# Altium footprint library wearable_pcb.PcbLib: 4 footprints
Each footprint in its own frame and in the unit in brackets; x right, y up, seen from the top. Pads: shape width x height; smd on the part's side, far side on the other; paste and mask are expansions set on the pad; w line width, h text height; cw(c..) or ccw(c..) is an arc to the next point about the centre after c.
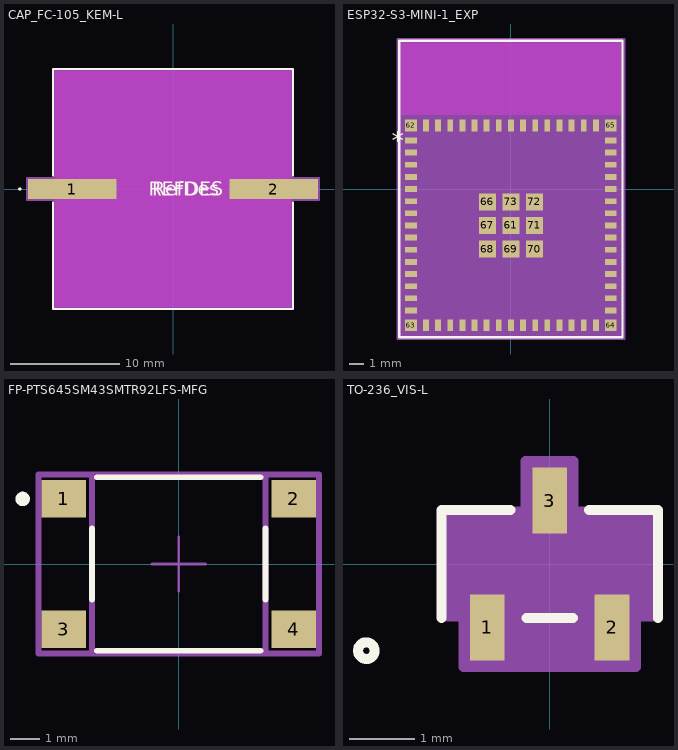
[diagram p0: the footprints below, top view; thin cyan lines are the x and y axes]

## CAP_FC-105_KEM-L [mil]
pads (2):
  rect 319x71 smd paste+0 mask+0: 1(-364.5,0) 2(364.5,0)
Top Layer keep-out:
  region: -203,-37.5 -203,37.5 203,37.5 203,-37.5
  region: -427,37.5 -427,427 427,427 427,37.5
  region: -427,-427 -427,-37.5 427,-37.5 427,-427
Top Overlay:
  circle w6: c-554,0 r3
  lines w6: -434,-48.6 -434,-434 434,-434 434,-48.6 ; -434,48.6 -434,434 434,434 434,48.6
  text "RefDes" at -75,-25 h50
  text "REFDES" at -87.5,-25 h50
Keep-Out Layer:
  region: -203,-37.5 -203,37.5 203,37.5 203,-37.5
Mechanical 13:
  circle w0: c-409,0 r3
  lines w1: -429,-214.5 -214.5,-429 ; -429,214.5 -214.5,429 ; -429,-429 429,-429 429,429 -429,429 -429,-429
  text "RefDes2" at -87.5,-25 h50
Mechanical 15:
  region: -433,-39.5 -528,-39.5 -528,39.5 -433,39.5 -433,433 433,433 433,39.5 528,39.5 528,-39.5 433,-39.5 433,-433 -433,-433
  lines w6: -528,-39.5 -528,39.5 -433,39.5 -433,433 433,433 433,39.5 528,39.5 528,-39.5 433,-39.5 433,-433 -433,-433 -433,-39.5 -528,-39.5
3D body "CAP_FC-105_KEM.step": height 415.12, standoff 0, extent -430.98,-429.02 430.98,429.02

## ESP32-S3-MINI-1_EXP [mil]
pads (73):
  rect 32x16 smd paste+0 mask+0: 1(-275.59,133.75) 2(-275.59,100.29) 3(-275.59,66.82) 4(-275.59,33.36) 5(-275.59,-0.11) 6(-275.59,-33.57) 7(-275.59,-67.04) 8(-275.59,-100.5) 9(-275.59,-133.96) 10(-275.59,-167.43) 11(-275.59,-200.89) 12(-275.59,-234.36) 13(-275.59,-267.82) 14(-275.59,-301.29) 15(-275.59,-334.75) 31(275.59,-334.75) 32(275.59,-301.29) 33(275.59,-267.82) 34(275.59,-234.36) 35(275.59,-200.89) 36(275.59,-167.43) 37(275.59,-133.96) 38(275.59,-100.5) 39(275.59,-67.04) 40(275.59,-33.57) 41(275.59,-0.11) 42(275.59,33.36) 43(275.59,66.82) 44(275.59,100.29) 45(275.59,133.75)
  rect 16x32 smd paste+0 mask+0: 16(-234.25,-376.09) 17(-200.79,-376.09) 18(-167.32,-376.09) 19(-133.86,-376.09) 20(-100.39,-376.09) 21(-66.93,-376.09) 22(-33.46,-376.09) 23(0,-376.09) 24(33.46,-376.09) 25(66.93,-376.09) 26(100.39,-376.09) 27(133.86,-376.09) 28(167.32,-376.09) 29(200.79,-376.09) 30(234.25,-376.09) 46(234.25,175.09) 47(200.79,175.09) 48(167.32,175.09) 49(133.86,175.09) 50(100.39,175.09) 51(66.93,175.09) 52(33.46,175.09) 53(0,175.09) 54(-33.46,175.09) 55(-66.93,175.09) 56(-100.39,175.09) 57(-133.86,175.09) 58(-167.32,175.09) 59(-200.79,175.09) 60(-234.25,175.09)
  rect 47x47 smd paste+0 mask+0: 61(0,-100.5) 66(-64.96,-35.54) 67(-64.96,-100.5) 68(-64.96,-165.46) 69(0,-165.46) 70(64.96,-165.46) 71(64.96,-100.5) 72(64.96,-35.54) 73(0,-35.54)
  rect 32x32 smd paste-16 mask-16: 62(-275.59,175.09) 63(-275.59,-376.09) 64(275.59,-376.09) 65(275.59,175.09)
Top Overlay:
  lines w6: -308,-408.5 -308,408.5 308,408.5 308,-408.5 -308,-408.5
  text ".Designator" at -137.5,-125.5 h50
  text "*" at -329.09,108.75 h50
Keep-Out Layer:
  region: 303,403.5 -303,403.5 -303,204.5 303,204.5
Mechanical 13:
  lines w1: -303,-403.5 303,-403.5 303,403.5 -303,403.5 -303,-403.5
  text "*" at -247.09,108.75 h50
  text ".Designator" at -137.5,-125.5 h50
Mechanical 15:
  region: 313,-413.5 313,413.5 -313,413.5 -313,-413.5
  lines w6: -313,-413.5 -313,413.5 313,413.5 313,-413.5 -313,-413.5

## FP-PTS645SM43SMTR92LFS-MFG [mm]
pads (4):
  rect 1.55x1.3 smd paste+0 mask+0: 1(-3.975,2.25) 2(3.975,2.25) 3(-3.975,-2.25) 4(3.975,-2.25)
Top Overlay:
  circle w0.25: c-5.4,2.25 r0.125
  lines w0.2: -3,-1.225 -3,1.225 ; -2.825,-3 2.825,-3 ; -2.825,3 2.825,3 ; 3,-1.225 3,1.225
Top 3D Body:
  lines w0.2: -3,-3 3,-3 3,3 -3,3 -3,-3
Top Courtyard:
  lines w0.2: -4.85,-3.1 4.85,-3.1 4.85,3.1 -4.85,3.1 -4.85,-3.1
Top Assembly:
  lines w0.2: -4.85,-3.1 4.85,-3.1 4.85,3.1 -4.85,3.1 -4.85,-3.1
  text ".Designator" at 0,0.188 h1
Top Component Center:
  lines w0.1: -0.93,0 0.93,0 ; 0,-0.93 0,0.93
3D body "Switch_C&K_PTS645SM43SMTR92LFS_eec.STEP": height 0.25, standoff 0, extent -4.85,-3.1 4.85,3.1

## TO-236_VIS-L [mm]
pads (3):
  rect 0.528x1.01 smd paste+0 mask+0: 1(-0.95,-0.966) 2(0.95,-0.966) 3(0,0.966)
Top Overlay:
  circle w0.152: c-2.794,-1.321 r0.127
  lines w0.152: -1.651,-0.826 -1.651,0.826 -0.597,0.826 ; -0.353,-0.826 0.353,-0.826 ; 0.597,0.826 1.651,0.826 1.651,-0.826
  text ".Designator" at -3.492,-0.635 h1.27
Mechanical 13:
  circle w0.025: c-1.27,-0.445 r0.127
  lines w0.025: -1.524,-0.699 1.524,-0.699 1.524,0.699 -1.524,0.699 -1.524,-0.699 ; -1.204,-1.321 -1.204,-0.699 -0.696,-0.699 -0.696,-1.321 -1.204,-1.321 ; -0.254,0.699 0.254,0.699 0.254,1.321 -0.254,1.321 -0.254,0.699 ; 0.696,-1.321 0.696,-0.699 1.204,-0.699 1.204,-1.321 0.696,-1.321
  text ".Designator" at -3.492,-0.635 h1.27
Mechanical 15:
  region: -1.626,-0.8 -1.626,0.8 -0.366,0.8 -0.366,1.572 0.366,1.572 0.366,0.8 1.626,0.8 1.626,-0.8 1.316,-0.8 1.316,-1.572 -1.316,-1.572 -1.316,-0.8
  region: 1.524,-0.699 -1.524,-0.699 -1.524,0.699 1.524,0.699
  lines w0.152: -1.626,-0.8 -1.626,0.8 -0.366,0.8 -0.366,1.572 0.366,1.572 0.366,0.8 1.626,0.8 1.626,-0.8 1.316,-0.8 1.316,-1.572 -1.316,-1.572 -1.316,-0.8 -1.626,-0.8
3D body "TO-236_VIS.step": height 1.12, standoff 0, extent -1.524,-1.321 1.524,1.321